# Altium schematic symbol library Card Edge 10.Schlib: 1 symbol
Pins are listed as number, name and electrical type; pins without a type are passive.

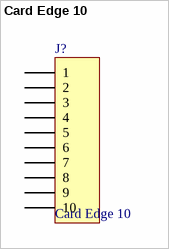
[diagram p0: symbol Card Edge 10]

## Card Edge 10
designator J?
Connector, 10-Pin Edge Connector
signal-integrity model Connector
pins: 1, 2, 3, 4, 5, 6, 7, 8, 9, 10